# Altium footprint library PcbLib1.PcbLib: 25 footprints (part 1 of 2)
Each footprint in its own frame and in the unit in brackets; x right, y up, seen from the top. Pads: shape width x height; smd on the part's side, far side on the other; paste and mask are expansions set on the pad; w line width, h text height; cw(c..) or ccw(c..) is an arc to the next point about the centre after c.
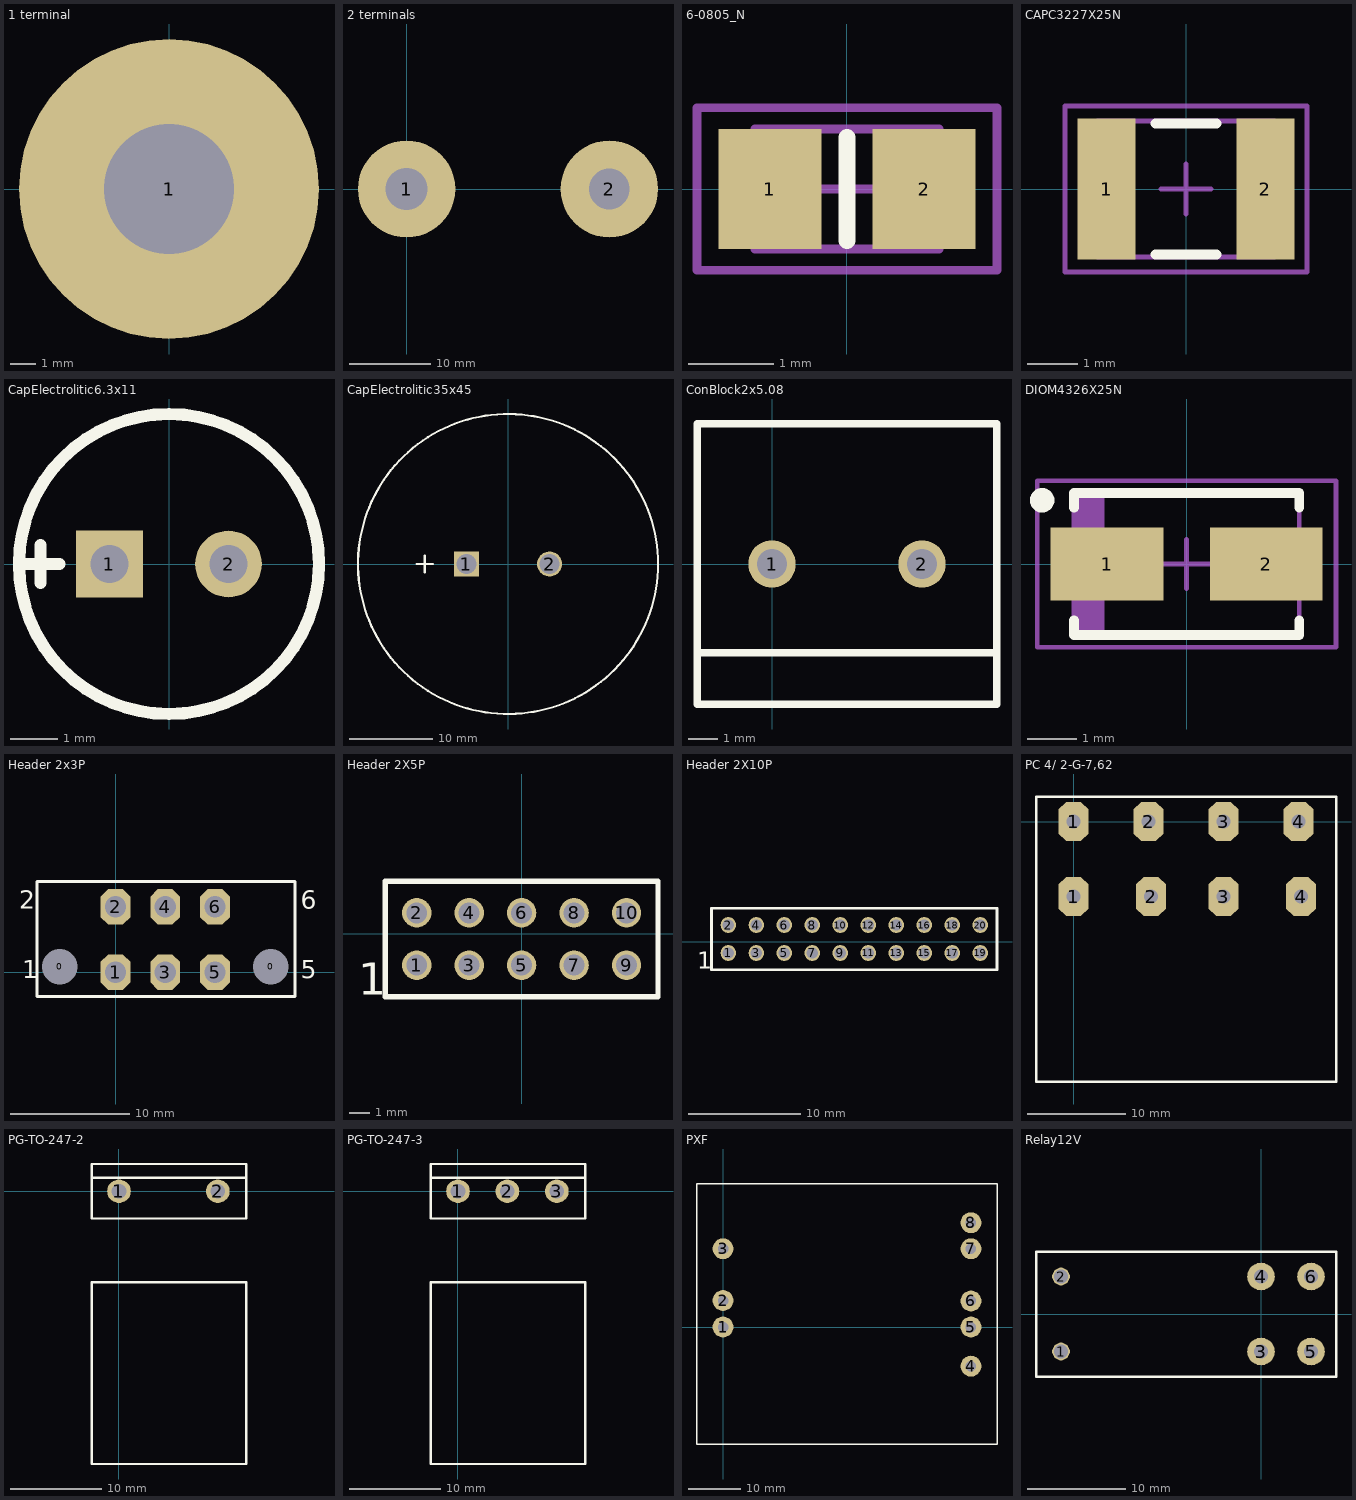
[diagram p0: the footprints below, top view; thin cyan lines are the x and y axes]

## 1 terminal [mm]
pads (1):
  round 12 hole 5.2: 1(0,0)

## 2 terminals [mm]
pads (2):
  round 12 hole 5.2: 1(0,0)
  round 12 hole 5: 2(25,0)

## 6-0805_N [mm] "Chip Resistor, Body 2.0x1.2mm, IPC Medium Density"
height 0.7
pads (2):
  rect 1.2x1.4 smd: 1(-0.9,0) 2(0.9,0)
Top Overlay:
  lines w0.2: 0,-0.6 0,0.6
Mechanical 13:
  lines w0.1: -1.075,-0.7 -1.075,0.7 1.075,0.7 1.075,-0.7 -1.075,-0.7
Mechanical 15:
  lines w0.1: -0.5,0 0.5,0 ; 0,-0.5 0,0.5 ; -1.75,-0.95 -1.75,0.95 1.75,0.95 1.75,-0.95 -1.75,-0.95
3D body: height 0.7, standoff 0, extent -1.075,-0.7 1.075,0.7

## CAPC3227X25N [mm] "Chip Capacitor, 2-Leads, Body 3.2x2.7mm, IPC Medium Density"
height 2.5
pads (2):
  rect 1.15x2.8 smd: 1(-1.575,0) 2(1.575,0)
Top Overlay:
  lines w0.2: -0.6,-1.3 0.6,-1.3 ; -0.6,1.3 0.6,1.3
Mechanical 13:
  lines w0.1: -1.75,-1.35 1.75,-1.35 1.75,1.35 -1.75,1.35 -1.75,-1.35
Mechanical 15:
  lines w0.1: -0.5,0 0.5,0 ; 0,-0.5 0,0.5 ; -2.4,-1.65 2.4,-1.65 2.4,1.65 -2.4,1.65 -2.4,-1.65
3D body: height 2.5, standoff 0, extent -1.75,-1.35 1.75,1.35

## CapElectrolitic6.3x11 [mm]
height 11
pads (2):
  rect 1.4x1.4 hole 0.8: 1(-1.25,0)
  round 1.4 hole 0.8: 2(1.25,0)
Top Overlay:
  circle w0.254: c0,0 r3.15
  lines w0.254: -3.1,0 -2.3,0 ; -2.7,-0.4 -2.7,0.4

## CapElectrolitic35x45 [mm]
height 40
pads (2):
  rect 3x3 hole 2.4: 1(-5,0)
  round 3 hole 2.4: 2(5,0)
Top Overlay:
  circle w0.254: c0,0 r18.028
  lines w0.254: -11,0 -9,0 ; -10,-1 -10,1

## ConBlock2x5.08 [mm]
pads (2):
  round 1.6 hole 1: 1(0,0) 2(5.08,0)
Top Overlay:
  lines w0.254: -2.54,-3 7.62,-3 ; -2.54,-4.75 -2.54,4.75 7.62,4.75 7.62,-4.75 -2.54,-4.75

## DIOM4326X25N [mm] "Molded Diode, 2-Leads, Body 4.3x2.6mm, IPC Medium Density"
height 2.5
pads (2):
  rect 2.3x1.5 smd: 1(-1.625,0) 2(1.625,0)
Top Overlay:
  circle w0.25: c-2.95,1.3 r0.125
  lines w0.2: -2.3,-1.15 -2.3,-1.45 2.3,-1.45 2.3,-1.15 ; -2.3,1.15 -2.3,1.45 2.3,1.45 2.3,1.15
Mechanical 13:
  rectangle: -2.3,-1.415 -1.681,1.415
  lines w0.1: -2.3,-1.415 2.3,-1.415 2.3,1.415 -2.3,1.415 -2.3,-1.415
Mechanical 15:
  lines w0.1: -0.5,0 0.5,0 ; 0,-0.5 0,0.5 ; -3.05,-1.7 3.05,-1.7 3.05,1.7 -3.05,1.7 -3.05,-1.7
3D body: height 2.5, standoff 0, extent -2.3,-1.415 2.3,1.415

## Header 2x3P [mm] "Straight header 2x2P"
height 10
pads (8):
  round 1 hole 3: 0(-4.7,0.46) 0(13.082,0.46)
  oct 2.5x3 hole 1.8: 1(0,0) 2(0,5.5) 3(4.182,0) 4(4.182,5.5) 5(8.382,0) 6(8.382,5.5)
Top Overlay:
  lines w0.254: -6.604,-2.032 -6.604,7.62 15.104,7.62 15.104,-2.032 -6.604,-2.032
  text "1" at -7.874,-0.508 h1.52
  text "2" at -8.128,5.334 h1.52
  text "6" at 15.612,5.334 h1.52
  text "5" at 15.612,-0.508 h1.52

## Header 2X5P [mm]
height 5
pads (10):
  round 1.4 hole 1: 1(-5,-1.5) 2(-5,1) 3(-2.5,-1.5) 4(-2.5,1) 5(0,-1.5) 6(0,1) 7(2.5,-1.5) 8(2.5,1) 9(5,-1.5) 10(5,1)
Top Overlay:
  lines w0.254: -6.5,-3 -6.5,2.5 6.5,2.5 6.5,-3 -6.5,-3
  text "1" at -7.8,-2.9 h1.52

## Header 2X10P [mm]
pads (20):
  round 1.4 hole 1: 1(-32.5,-1) 2(-32.5,1.5) 3(-30,-1) 4(-30,1.5) 5(-27.5,-1) 6(-27.5,1.5) 7(-25,-1) 8(-25,1.5) 9(-22.5,-1) 10(-22.5,1.5) 11(-20,-1) 12(-20,1.5) 13(-17.5,-1) 14(-17.5,1.5) 15(-15,-1) 16(-15,1.5) 17(-12.5,-1) 18(-12.5,1.5) 19(-10,-1) 20(-10,1.5)
Top Overlay:
  lines w0.254: -34,-2.5 -21.1,-2.5 -8.5,-2.5 -8.5,-0.625 -8.5,1.125 -8.5,3 -34,3 -34,-2.5
  text "1" at -35.3,-2.4 h1.52

## PC 4/ 2-G-7,62 [mm] "2pin pistik plaadile"
height 14
pads (8):
  oct 3x4 hole 1.4: 1(0,-7.62) 1(0,0) 2(7.62,0) 2(7.874,-7.62) 3(15.24,-7.62) 3(15.24,0) 4(22.86,0) 4(23.114,-7.62)
Top Overlay:
  lines w0.254: -3.81,-26.416 26.67,-26.416 26.67,-2.54 26.67,2.54 -3.81,2.54 -3.81,-26.416

## PG-TO-247-2 [mm]
pads (2):
  round 2.6 hole 1.6: 1(0,0) 2(10.88,0)
Top Overlay:
  lines w0.254: -3,1.5 14,1.5 ; -3,-30 14,-30 14,-10 -3,-10 -3,-30 ; -3,-3 -3,3 14,3 14,-3 -3,-3

## PG-TO-247-3 [mm]
height 5
pads (3):
  round 2.6 hole 1.6: 1(0,0) 2(5.44,0) 3(10.88,0)
Top Overlay:
  lines w0.254: -3,1.5 14,1.5 ; -3,-30 14,-30 14,-10 -3,-10 -3,-30 ; -3,-3 -3,3 14,3 14,-3 -3,-3

## PXF [mm]
pads (8):
  round 4 hole 2: 1(0,0) 2(0,5.08) 3(0,15) 4(47.5,-7.5) 5(47.5,0) 6(47.5,5) 7(47.5,15) 8(47.5,20)
Top Overlay:
  lines w0.254: -5,-22.5 -5,27.5 52.5,27.5 52.5,-22.5 -5,-22.5

## Relay12V [mm]
pads (6):
  round 1.8 hole 1.4: 1(-20.32,-3.81) 2(-20.32,3.81)
  round 2.8 hole 1.4: 3(0,-3.81) 4(0,3.81) 5(5.08,-3.81) 6(5.08,3.81)
Top Overlay:
  lines w0.254: -22.86,-6.35 -22.86,6.35 7.62,6.35 7.62,-6.35 -22.86,-6.35